# Altium integrated library RS-032G05A3-SMRT.IntLib: 1 symbol
Pins are listed as number, name and electrical type; pins without a type are passive.

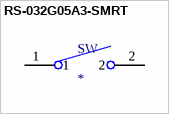
[diagram p0: symbol RS-032G05A3-SMRT]

## RS-032G05A3-SMRT
designator SW
Tactile Switch SPST-NO Top Actuated Surface Mount; MF: C&K; MP: RS032G05A3SMRT; Package: None; Value: *; Availability: Unavailable; SnapEDA_Link: https://www.snapeda.com/parts/RS032G05A3SMRT/C%26K/view-part/578384/?ref=snap; Price: None
footprint SW_RS-032G05A3-SMRT
pins: 1, 2